# Altium schematic symbol library TestDeviceSchLib.SchLib: 16 symbols
Pins are listed as number, name and electrical type; pins without a type are passive.

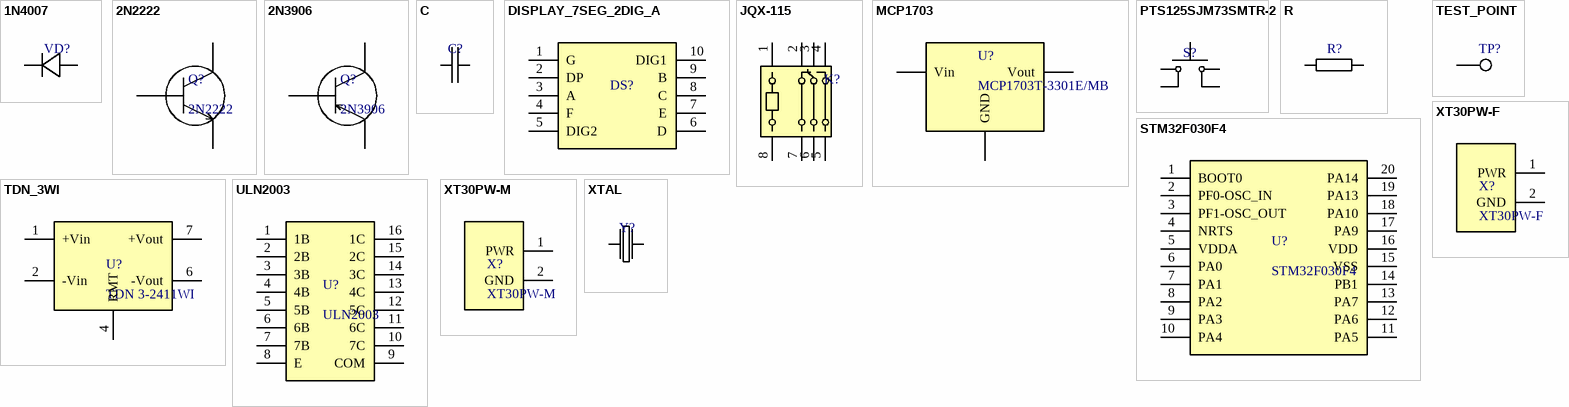
[diagram p0: symbols 1N4007 to XTAL]

## 1N4007
designator VD?
General Purpose Plastic Rectifier; Manufacturer: Vishay; PartNumber: 1N4007-E3/54; Component: Diode
footprint 1N4007
pins: 1 C, 2 A

## 2N2222
designator Q?
Amplifier Bipolar NPN Silicon Transistor; PartNumber: P2N2222A; Manufacturer: ON Semiconductor; Component: Bipolar Transistor; Lead: Straight; Package: TO-92
footprint TO-92
pins: 1 COLLECTOR, 2 BASE, 3 EMITTER

## 2N3906
designator Q?
General Purpose Bipolar PNP Silicon Transistor; Manufacturer: ON Semiconductor; Component: Bipolar Transistor; Lead: Straight; PartNumber: 2N3906; Package: TO-92
footprint TO-92
pins: 1 EMITTER, 2 BASE, 3 COLLECTOR

## C
designator C?
SMD Capacitor; Component: Capacitor
footprint C0603
footprint C0805
pins: 1, 2

## DISPLAY_7SEG_2DIG_A
designator DS?
7 Segment 2 Digit LED Display with Common Anode; Manufacturer: ARK LED; PartNumber: SN410362; Component: Display
footprint DISPLAY_7SEG_2DIG
pins: 1 G, 2 DP, 3 A, 4 F, 5 DIG2, 6 D, 7 E, 8 C, 9 B, 10 DIG1

## JQX-115
designator K?
Miniature High Power Relay; Manufacturer: HONGFA Relay; PartNumber: JQX-115F/0051ZS3AF; Component: Relay
footprint JQX-115F
pins: 1, 2, 3, 4, 5, 6, 7, 8

## MCP1703
designator U?, comment MCP1703T-3301E/MB
Low Quiescent Current LDO, 250 mA, 16V; Manufacturer: Microchip; Voltage: 3.3V; Component: Voltage Regulator; PartNumber: MCP1703T-3301E/MB; Package: SOT89-3
footprint SOT89-3
pins: 1 GND, 2 Vin, 3 Vout

## PTS125SJM73SMTR-2
designator S?
12 mm x 12 mm Tactile Push Button; Manufacturer: Littelfuse; PartNumber: PTS125SJM73SMTR-2; Component: Switch
footprint SMD_BUTTON_SPST_12X12
pins: 1, 2, 3, 4

## R
designator R?
SMD Resistor; Component: Resistor
footprint R0603
footprint R0805
pins: 1, 2

## STM32F030F4
designator U?
Mainstream Arm Cortex-M0 Value line MCU with 16 Kbytes of Flash memory, 48 MHz CPU; Manufacturer: STMicroelectronics; Component: Microcontroller; PartNumber: STM32F030F4; Package: TSSOP-20
footprint TSSOP-20
pins: 1 BOOT0, 2 PF0-OSC_IN, 3 PF1-OSC_OUT, 4 NRTS, 5 VDDA, 6 PA0, 7 PA1, 8 PA2, 9 PA3, 10 PA4, 11 PA5, 12 PA6, 13 PA7, 14 PB1, 15 VSS, 16 VDD, 17 PA9, 18 PA10, 19 PA13, 20 PA14

## TDN_3WI
designator U?, comment TDN 3-2411WI
3 Watt fully regulated, high performance DC/DC converter; Manufacturer: Traco Power; Component: Voltage Regulator; PartNumber: TDN 3-2411WI
footprint TDN3WI
pins: 1 +Vin, 2 -Vin, 4 RMT, 6 -Vout, 7 +Vout

## TEST_POINT
designator TP?  (no BOM)
footprint TEST_POINT
pins: 1

## ULN2003
designator U?
High-Voltage, High-Current Darlington Transistor Array; PartNumber: ULN2003ADR; Manufacturer: Texas Instruments; Component: Integrated Circuit; Package: SOIC-16
footprint SOIC-16
pins: 1 1B, 2 2B, 3 3B, 4 4B, 5 5B, 6 6B, 7 7B, 8 E, 9 COM, 10 7C, 11 6C, 12 5C, 13 4C, 14 3C, 15 2C, 16 1C

## XT30PW-F
designator X?
PCB board horizontal 30A female connector; Manufacturer: AMASS; PartNumber: XT30PW-F; Component: Connector; Gender: Female
footprint XT30PW-F
pins: 1 PWR, 2 GND

## XT30PW-M
designator X?
PCB board horizontal 30A male connector; Manufacturer: AMASS; PartNumber: XT30PW-M; Component: Connector; Gender: Male
footprint XT30PW-M
pins: 1 PWR, 2 GND

## XTAL
designator Y?
Crystal Oscillator; Component: Crystal Oscillator
footprint XTAL
pins: 1, 2